# EAGLE library part 690367282076 (library Eagle_BOARD-TO-BOARD_CONNECTORS (rev18b))
WR-MM Female SMT Connector with Polarization, 20 Pins=>Code : Con_BTB_MM_Female_SMT_690367282076 <http://katalog.we-online.de/media/thumbs2/eican/thb_Con_BTB_MM_Female_SMT_69036728xx76_pf2.jpg> Details see: http://katalog.we-online.de/en/em/6903_6728_xx_76 Created 2014-06-04, Karrer Zheng 2014 (C) Würth Elektronik
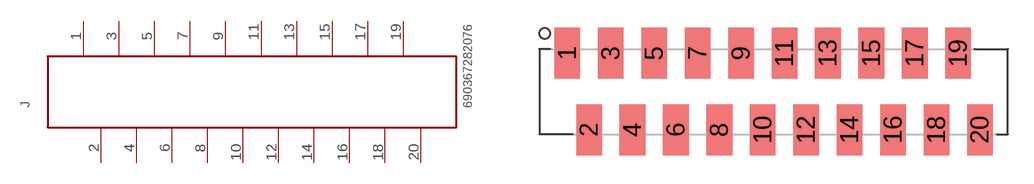
[diagram p356: symbol with the pads of 690367282076; footprint 690367282076]

Designator prefix J

## 690367282076  [690367282076]
1  20  pas
2  19  pas
3  18  pas
4  17  pas
5  16  pas
6  15  pas
7  14  pas
8  13  pas
9  12  pas
10  11  pas
11  10  pas
12  9  pas
13  8  pas
14  7  pas
15  6  pas
16  5  pas
17  4  pas
18  3  pas
19  2  pas
20  1  pas

## Footprint 690367282076 (pad centres in mm)
WR-MM Female SMT Connector with Polarization, 20 pins
smd 1.5 x 3: 1 -12.065,2.25; 2 -10.795,-2.25; 3 -9.525,2.25; 4 -8.255,-2.25; 5 -6.985,2.25; 6 -5.715,-2.25; 7 -4.445,2.25; 8 -3.175,-2.25; 9 -1.905,2.25; 10 -0.635,-2.25; 11 0.635,2.25; 12 1.905,-2.25; 13 3.175,2.25; 14 4.445,-2.25; 15 5.715,2.25; 16 6.985,-2.25; 17 8.255,2.25; 18 9.525,-2.25; 19 10.795,2.25; 20 12.065,-2.25